# Altium footprint library Footprint.PcbLib: 97 footprints (part 6 of 7)
Each footprint in its own frame and in the unit in brackets; x right, y up, seen from the top. Pads: shape width x height; smd on the part's side, far side on the other; paste and mask are expansions set on the pad; w line width, h text height; cw(c..) or ccw(c..) is an arc to the next point about the centre after c.
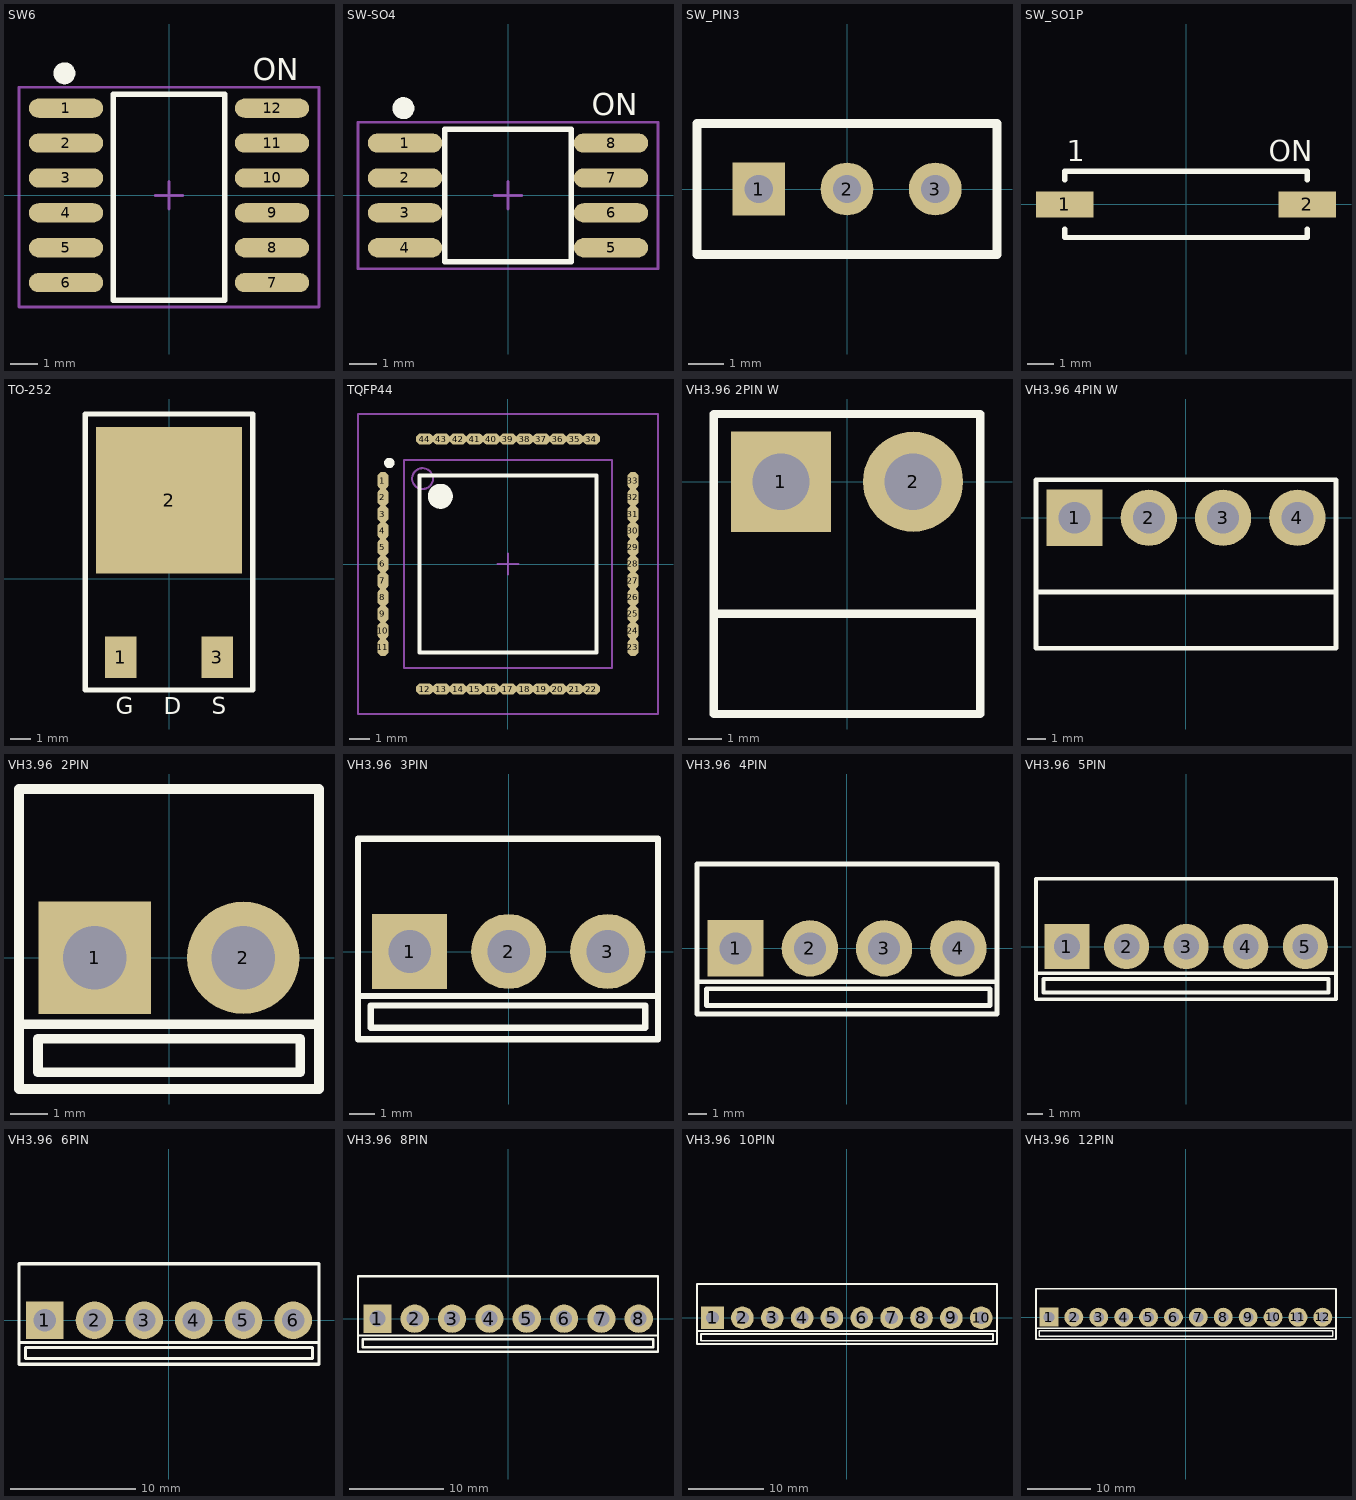
[diagram p5: the footprints below, top view; thin cyan lines are the x and y axes]

## SW6 [mm]
pads (12):
  oval 2.7x0.7 smd: 1(-3.75,3.175) 2(-3.75,1.905) 3(-3.75,0.635) 4(-3.75,-0.635) 5(-3.75,-1.905) 6(-3.75,-3.175) 7(3.75,-3.175) 8(3.75,-1.905) 9(3.75,-0.635) 10(3.75,0.635) 11(3.75,1.905) 12(3.75,3.175)
Top Overlay:
  circle w0.4: c-3.808,4.445 r0.2
  lines w0.2: -2.032,-3.81 2.032,-3.81 2.032,3.681 -2.032,3.681 -2.032,-3.81
  text "ON" at 3.048,4.191 h0.8
Mechanical 15:
  lines w0.1: -0.5,0 0.5,0 ; 0,-0.492 0,0.508 ; -5.461,-4.064 5.461,-4.064 5.461,3.937 -5.461,3.937 -5.461,-4.064

## SW-SO4 [mm]
pads (8):
  oval 2.7x0.7 smd: 1(-3.75,1.905) 2(-3.75,0.635) 3(-3.75,-0.635) 4(-3.75,-1.905) 5(3.75,-1.905) 6(3.75,-0.635) 7(3.75,0.635) 8(3.75,1.905)
Top Overlay:
  circle w0.4: c-3.808,3.175 r0.2
  lines w0.2: -2.3,-2.413 -2.3,2.411 2.3,2.411 2.3,-2.413 -2.3,-2.413
  text "ON" at 3.048,2.921 h0.8
Mechanical 15:
  lines w0.1: -0.5,0 0.5,0 ; 0,-0.492 0,0.508 ; -5.461,-2.667 -5.461,2.667 5.461,2.667 5.461,-2.667 -5.461,-2.667

## SW_PIN3 [mm]
pads (3):
  rect 1.5x1.5 hole 0.8: 1(-2.5,0)
  round 1.5 hole 0.8: 2(0,0) 3(2.5,0)
Top Overlay:
  lines w0.254: -4.25,-1.85 4.25,-1.85 4.25,1.85 -4.25,1.85 -4.25,-1.85

## SW_SO1P [mm]
pads (2):
  rect 2.2x1 smd: 1(-4.65,0) 2(4.65,0)
Top Overlay:
  lines w0.2: -4.65,-0.938 -4.65,-1.27 4.65,-1.27 4.65,-0.938 ; -4.65,0.938 -4.65,1.27 4.65,1.27 4.65,0.938
  text "1" at -4.572,1.651 h0.8
  text "ON" at 3.175,1.651 h0.8

## TO-252 [mm]
pads (3):
  rect 1.5x2 smd: 1(-2.3,-3.75) 3(2.3,-3.75)
  rect 7x7 smd: 2(0,3.75)
Top Overlay:
  lines w0.254: -4,-5.322 -4,7.87 4,7.87 4,-5.322 -4,-5.322
  text "G" at -2.54,-6.465 h0.8
  text "D" at -0.254,-6.465 h0.8
  text "S" at 2.032,-6.465 h0.8

## TQFP44 [mm]
pads (44):
  oval 0.55x0.85 smd: 1(-6,4) 2(-6,3.2) 3(-6,2.4) 4(-6,1.6) 5(-6,0.8) 6(-6,0) 7(-6,-0.8) 8(-6,-1.6) 9(-6,-2.4) 10(-6,-3.2) 11(-6,-4) 23(6,-4) 24(6,-3.2) 25(6,-2.4) 26(6,-1.6) 27(6,-0.8) 28(6,0) 29(6,0.8) 30(6,1.6) 31(6,2.4) 32(6,3.2) 33(6,4)
  oval 0.85x0.55 smd: 12(-4,-6) 13(-3.2,-6) 14(-2.4,-6) 15(-1.6,-6) 16(-0.8,-6) 17(0,-6) 18(0.8,-6) 19(1.6,-6) 20(2.4,-6) 21(3.2,-6) 22(4,-6) 34(4,6) 35(3.2,6) 36(2.4,6) 37(1.6,6) 38(0.8,6) 39(0,6) 40(-0.8,6) 41(-1.6,6) 42(-2.4,6) 43(-3.2,6) 44(-4,6)
Top Overlay:
  circle w0.6: c-3.25,3.25 r0.3
  circle w0.25: c-5.7,4.85 r0.125
  lines w0.2: -4.25,-4.25 4.25,-4.25 4.25,4.25 -4.25,4.25 -4.25,-4.25
Mechanical 13:
  circle w0.1: c-4.1,4.1 r0.5
  lines w0.1: -5,-5 5,-5 5,5 -5,5 -5,-5
Mechanical 15:
  lines w0.1: -0.5,0 0.5,0 ; 0,-0.5 0,0.5 ; -7.2,-7.2 7.2,-7.2 7.2,7.2 -7.2,7.2 -7.2,-7.2
3D body: height 1.2, standoff 0, extent -5,-5 5,5

## VH3.96 2PIN W [mm] "弯脚"
pads (2):
  rect 3x3 hole 1.7: 1(-1.98,0)
  round 3 hole 1.7: 2(1.98,0)
Top Overlay:
  lines w0.254: -4,-3.96 4,-3.96 ; -4,-6.96 4,-6.96 4,2.032 -4,2.032 -4,-6.96

## VH3.96 4PIN W [mm] "弯脚"
pads (4):
  rect 3x3 hole 1.7: 1(-5.94,0)
  round 3 hole 1.7: 2(-1.98,0) 3(1.98,0) 4(5.94,0)
Top Overlay:
  lines w0.254: -8,-3.96 8,-3.96 ; -8,-6.96 -8,2.032 8,2.032 8,-6.96 -8,-6.96

## VH3.96  2PIN [mm]
pads (2):
  rect 3x3 hole 1.7: 1(-1.98,0)
  round 3 hole 1.7: 2(1.98,0)
Top Overlay:
  lines w0.254: -4,-1.778 4,-1.778 ; -3.5,-3.048 3.5,-3.048 3.5,-2.159 -3.5,-2.159 ; -3.493,-3.048 -3.493,-2.159 ; -4,-3.5 -4,4.5 4,4.5 4,-3.5 -4,-3.5

## VH3.96  3PIN [mm]
pads (3):
  rect 3x3 hole 1.7: 1(-3.96,0)
  round 3 hole 1.7: 2(0,0) 3(3.96,0)
Top Overlay:
  lines w0.254: -6.02,-1.778 5.969,-1.778 ; -6.02,-3.5 -6.02,4.5 5.969,4.5 5.969,-3.5 -6.02,-3.5 ; -5.513,-3.048 -5.513,-2.159 5.461,-2.159 5.461,-3.048 -5.513,-3.048

## VH3.96  4PIN [mm]
pads (4):
  rect 3x3 hole 1.7: 1(-5.94,0)
  round 3 hole 1.7: 2(-1.98,0) 3(1.98,0) 4(5.94,0)
Top Overlay:
  lines w0.254: -8,-1.778 8,-1.778 ; -8,-3.5 -8,4.5 8,4.5 8,-3.5 -8,-3.5 ; -7.493,-3.048 -7.493,-2.159 7.62,-2.159 7.62,-3.048 -7.493,-3.048

## VH3.96  5PIN [mm]
pads (5):
  rect 3x3 hole 1.7: 1(-7.92,0)
  round 3 hole 1.7: 2(-3.96,0) 3(0,0) 4(3.96,0) 5(7.92,0)
Top Overlay:
  lines w0.254: -9.98,-1.778 9.958,-1.778 ; -9.98,-3.5 9.958,-3.5 9.958,4.5 -9.98,4.5 -9.98,-3.5 ; -9.473,-3.048 9.45,-3.048 9.45,-2.159 -9.473,-2.159 -9.473,-3.048

## VH3.96  6PIN [mm]
pads (6):
  rect 3x3 hole 1.8: 1(-9.9,0)
  round 3 hole 1.8: 2(-5.94,0) 3(-1.98,0) 4(1.98,0) 5(5.94,0) 6(9.9,0)
Top Overlay:
  lines w0.254: -11.96,-1.778 11.938,-1.778 ; 11.938,-3.5 -11.96,-3.5 -11.96,4.5 11.938,4.5 ; 11.96,-3.5 11.96,4.5 ; -11.453,-3.048 -11.453,-2.159 11.43,-2.159 11.43,-3.048 -11.453,-3.048

## VH3.96  8PIN [mm]
pads (8):
  rect 3x3 hole 1.7: 1(-13.86,0)
  round 3 hole 1.7: 2(-9.9,0) 3(-5.94,0) 4(-1.98,0) 5(1.98,0) 6(5.94,0) 7(9.9,0) 8(13.86,0)
Top Overlay:
  lines w0.254: -15.92,-1.778 15.904,-1.778 ; -15.92,-3.5 -15.92,4.5 15.904,4.5 15.904,-3.5 -15.92,-3.5 ; -15.413,-3.048 -15.413,-2.159 15.396,-2.159 15.396,-3.048 -15.413,-3.048

## VH3.96  10PIN [mm]
pads (10):
  rect 3x3 hole 1.7: 1(-17.82,0)
  round 3 hole 1.7: 2(-13.86,0) 3(-9.9,0) 4(-5.94,0) 5(-1.98,0) 6(1.98,0) 7(5.94,0) 8(9.9,0) 9(13.86,0) 10(17.82,0)
Top Overlay:
  lines w0.254: -19.88,-1.778 19.916,-1.778 ; -19.88,-3.5 19.916,-3.5 19.916,4.5 -19.88,4.5 -19.88,-3.5 ; -19.373,-3.048 19.408,-3.048 19.408,-2.159 -19.373,-2.159 -19.373,-3.048

## VH3.96  12PIN [mm]
pads (12):
  rect 3x3 hole 1.7: 1(-21.78,0)
  round 3 hole 1.7: 2(-17.82,0) 3(-13.86,0) 4(-9.9,0) 5(-5.94,0) 6(-1.98,0) 7(1.98,0) 8(5.94,0) 9(9.9,0) 10(13.86,0) 11(17.82,0) 12(21.78,0)
Top Overlay:
  lines w0.254: -23.84,-1.778 23.876,-1.778 ; 23.368,-3.048 23.368,-2.159 ; 23.368,-3.048 23.368,-2.159 ; 23.368,-3.048 -23.333,-3.048 -23.333,-2.159 23.368,-2.159 ; -23.84,-3.5 23.876,-3.5 23.876,4.5 -23.84,4.5 -23.84,-3.5